# Altium footprint library 传感器.PcbLib: 17 footprints (part 2 of 2)
Each footprint in its own frame and in the unit in brackets; x right, y up, seen from the top. Pads: shape width x height; smd on the part's side, far side on the other; paste and mask are expansions set on the pad; w line width, h text height; cw(c..) or ccw(c..) is an arc to the next point about the centre after c.
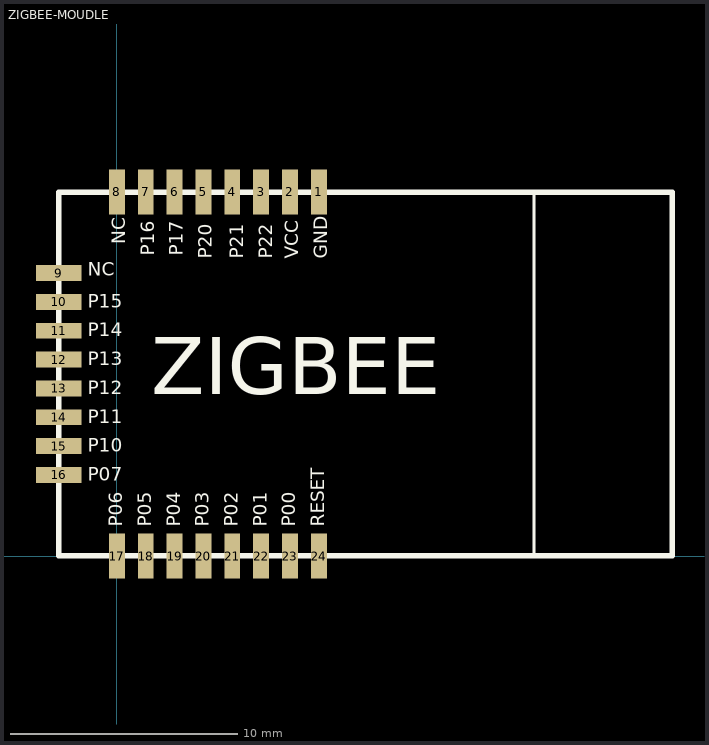
[diagram p1: the footprint, top view; thin cyan lines are the x and y axes]

## ZIGBEE-MOUDLE [mm]
height 1.3
pads (24):
  rect 0.7x2 smd: 1(8.89,16.026) 2(7.62,16.026) 3(6.35,16.026) 4(5.08,16.026) 5(3.81,16.026) 6(2.54,16.026) 7(1.27,16.026) 8(0,16.026) 17(0,0) 18(1.27,0) 19(2.54,0) 20(3.81,0) 21(5.08,0) 22(6.35,0) 23(7.62,0) 24(8.89,0)
  rect 2x0.7 smd: 9(-2.568,12.458) 10(-2.568,11.188) 11(-2.568,9.918) 12(-2.568,8.648) 13(-2.568,7.378) 14(-2.568,6.108) 15(-2.568,4.838) 16(-2.568,3.568)
Top Overlay:
  lines w0.127: 18.369,0.013 18.369,16.015
  lines w0.254: -2.555,0.013 -2.555,16.013 24.445,16.013 24.445,0.013 -2.555,0.013
  text "ZIGBEE" at 1.509,7.125 h2.5
  text "NC" at -1.285,12.332 h0.6
  text "P15" at -1.285,10.935 h0.6
  text "P13" at -1.285,8.395 h0.6
  text "P14" at -1.285,9.665 h0.6
  text "P12" at -1.285,7.125 h0.6
  text "P11" at -1.285,5.855 h0.6
  text "P10" at -1.285,4.585 h0.6
  text "P07" at -1.285,3.315 h0.6
  text "P06" at 0.239,1.283 h0.6
  text "P05" at 1.509,1.283 h0.6
  text "P04" at 2.779,1.283 h0.6
  text "P03" at 4.049,1.283 h0.6
  text "P02" at 5.319,1.283 h0.6
  text "P01" at 6.589,1.283 h0.6
  text "P00" at 7.859,1.283 h0.6
  text "RESET" at 9.129,1.283 h0.6
  text "NC" at 0.366,13.729 h0.6
  text "P16" at 1.636,13.221 h0.6
  text "P17" at 2.906,13.221 h0.6
  text "P20" at 4.176,13.094 h0.6
  text "P21" at 5.573,13.094 h0.6
  text "P22" at 6.843,13.094 h0.6
  text "VCC" at 7.986,13.094 h0.6
  text "GND" at 9.256,13.094 h0.6